# EAGLE library part TPS7B82-Q1 (library TPS7B82-Q1)
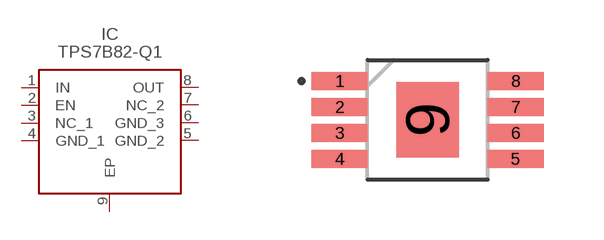
[diagram p0: symbol with the pads of SOP65P490X110-9N; footprint SOP65P490X110-9N]

Designator prefix IC

## TPS7B82-Q1  [SOP65P490X110-9N]
1  IN
2  EN
3  NC_1  nc
4  GND_1
5  GND_2
6  GND_3
7  NC_2  nc
8  OUT
9  EP

## Footprint SOP65P490X110-9N (pad centres in mm)
smd 1.4 x 0.45: 1 -2.2,0.975; 2 -2.2,0.325; 3 -2.2,-0.325; 4 -2.2,-0.975; 5 2.2,-0.975; 6 2.2,-0.325; 7 2.2,0.325; 8 2.2,0.975
smd 1.57 x 1.89: 9 0,0